# Altium integrated library TI_Logic_Specialty_Logic.IntLib: 2504 symbols (part 15 of 81)
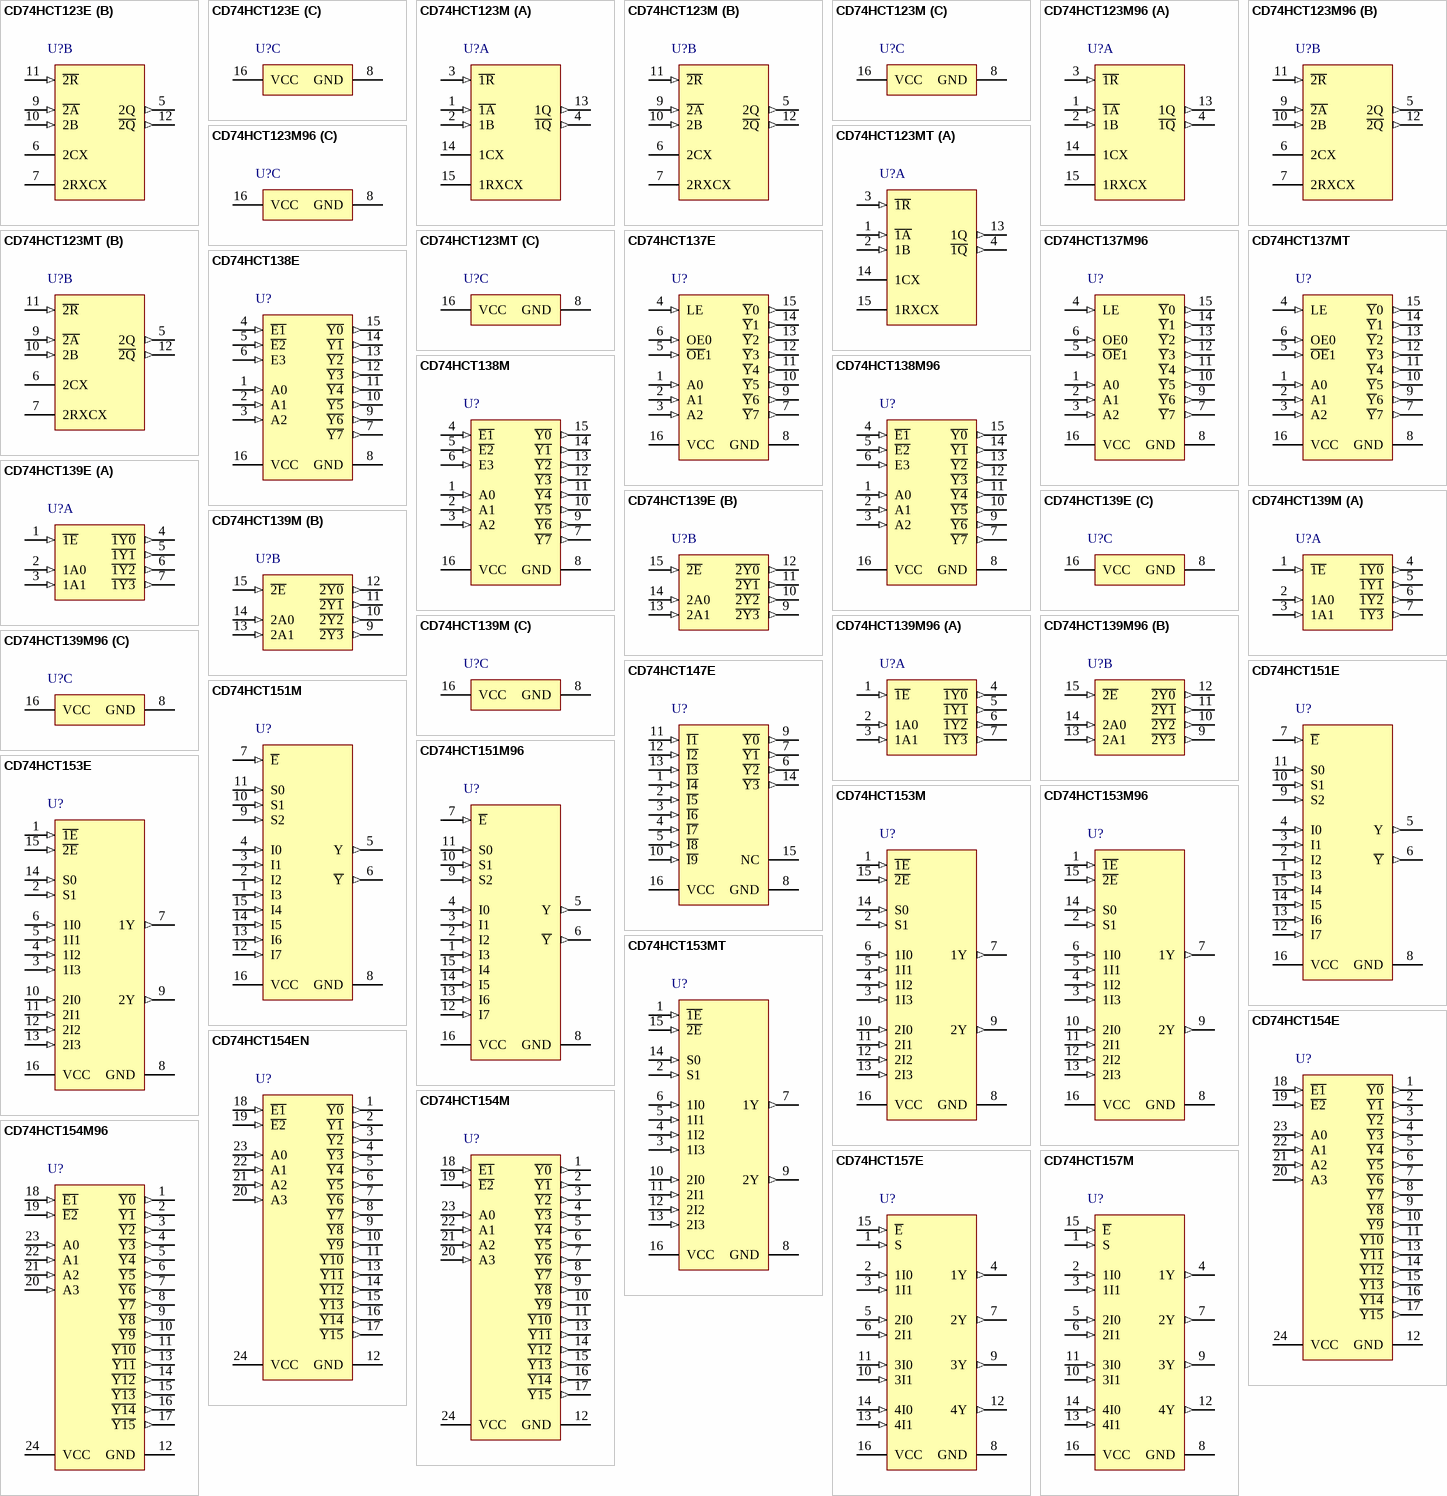
[diagram p118: symbols CD74HCT123E to CD74HCT157M]

## CD74HCT139M96
designator U?
High Speed CMOS Logic Dual 2-to-4 Line Decoders/Demultiplexers, D0016A, LARGE T&R; Generic Part Number: CD74HCT139; Manufacturer: Texas Instruments; PartNumber: CD74HCT139M96; VCC(Min)(V): 4.5; VCC(Max)(V): 5.5; Function: Decoder/Demultiplexer; ICC @ Nom Voltage(Max)(mA): 0.08; Input Type: TTL; Bits(#): 4; F @ Nom Voltage(Max)(Mhz): 25; Configuration: 2：4; Channels(#): 2; Rating: Catalog; Technology Family: HCT; Voltage(Nom)(V): 5; Schmitt Trigger: No; Output Drive (IOL/IOH)(Max)(mA): 4/-4; tpd @ Nom Voltage(Max)(ns): 45; DatasheetVersion: SCHS148D; PackageReference: D0016A; Supplier 1: Mouser; Supplier Part Number 1: 595-CD74HCT139M96; Supplier 2: Digi-Key; Supplier Part Number 2: CD74HCT139M96-ND; Output Type: CMOS; Operating Temperature Range(C): -55 to 125; Type: Standard; Code_JEDEC: MS-012 variation AC; ComponentLink1Description: Manufacturer URL; ComponentLink1URL: http://www.ti.com/; ComponentLink2Description: Datasheet; ComponentLink2URL: http://www.ti.com/lit/ds/symlink/cd74hct139.pdf; ComponentLink3Description: Package Specification; ComponentLink3URL: http://www.ti.com/lit/ml/mpds178g/mpds178g.pdf
footprint D0016A_N (SOIC, 16-Leads, Body 10x4mm, Pitch 1.27mm, IPC Medium Density)
footprint D0016A_M (SOIC, 16-Leads, Body 10x4mm, Pitch 1.27mm, IPC Low Density)
footprint D0016A_L (SOIC, 16-Leads, Body 10x4mm, Pitch 1.27mm, IPC High Density)
part A pins: 1 ~{1E} (in), 2 1A0 (in), 3 1A1 (in), 4 ~{1Y0} (out), 5 ~{1Y1} (out), 6 ~{1Y2} (out), 7 ~{1Y3} (out)
part B pins: 9 ~{2Y3} (out), 10 ~{2Y2} (out), 11 ~{2Y1} (out), 12 ~{2Y0} (out), 13 2A1 (in), 14 2A0 (in), 15 ~{2E} (in)
part C pins: 8 GND (power), 16 VCC (power)

## CD74HCT147E
designator U?
High Speed CMOS Logic 10-to-4 Line Priority Encoder, N0016A, TUBE; Generic Part Number: CD74HCT147; Manufacturer: Texas Instruments; PartNumber: CD74HCT147E; VCC(Min)(V): 4.5; VCC(Max)(V): 5.5; Function: Encoder/Multiplexer; ICC @ Nom Voltage(Max)(mA): 0.08; Input Type: TTL; Bits(#): 10; F @ Nom Voltage(Max)(Mhz): 25; Configuration: 10：4; Channels(#): 1; Rating: Catalog; Technology Family: HCT; Voltage(Nom)(V): 5; Schmitt Trigger: No; Output Drive (IOL/IOH)(Max)(mA): 4/-4; tpd @ Nom Voltage(Max)(ns): 35; DatasheetVersion: SCHS149F; PackageReference: N0016A; Supplier 1: Mouser; Supplier Part Number 1: 595-CD74HCT147E; Supplier 2: Digi-Key; Supplier Part Number 2: 296-9252-5-ND; Output Type: CMOS; Operating Temperature Range(C): -55 to 125; Type: Standard; Code_JEDEC: MS-001; ComponentLink1Description: Manufacturer URL; ComponentLink1URL: http://www.ti.com/; ComponentLink2Description: Datasheet; ComponentLink2URL: http://www.ti.com/lit/ds/symlink/cd74hct147.pdf; ComponentLink3Description: Package Specification; ComponentLink3URL: http://www.ti.com/lit/ml/mpdi002c/mpdi002c.pdf
footprint N0016A (DIP, 16-Leads, Body 19.7x6.6mm, Pitch 2.54mm)
pins: 1 ~{I4} (in), 2 ~{I5} (in), 3 ~{I6} (in), 4 ~{I7} (in), 5 ~{I8} (in), 6 ~{Y2} (out), 7 ~{Y1} (out), 8 GND (power), 9 ~{Y0} (out), 10 ~{I9} (in), 11 ~{I1} (in), 12 ~{I2} (in), 13 ~{I3} (in), 14 ~{Y3} (out), 15 NC, 16 VCC (power)

## CD74HCT151E
designator U?
High Speed CMOS Logic 8-Input Multiplexer, N0016A, TUBE; Generic Part Number: CD74HCT151; Manufacturer: Texas Instruments; PartNumber: CD74HCT151E; VCC(Min)(V): 4.5; VCC(Max)(V): 5.5; Function: Encoder/Multiplexer; ICC @ Nom Voltage(Max)(mA): 0.08; Input Type: TTL; Bits(#): 8; F @ Nom Voltage(Max)(Mhz): 25; Configuration: 8：1; Channels(#): 1; Rating: Catalog; Technology Family: HCT; Voltage(Nom)(V): 5; Schmitt Trigger: No; Output Drive (IOL/IOH)(Max)(mA): 4/-4; tpd @ Nom Voltage(Max)(ns): 48; DatasheetVersion: SCHS150C; PackageReference: N0016A; Supplier 1: Mouser; Supplier Part Number 1: 595-CD74HCT151E; Supplier 2: Digi-Key; Supplier Part Number 2: 296-2139-5-ND; Output Type: CMOS; Operating Temperature Range(C): -55 to 125; Type: Standard; Code_JEDEC: MS-001; ComponentLink1Description: Manufacturer URL; ComponentLink1URL: http://www.ti.com/; ComponentLink2Description: Datasheet; ComponentLink2URL: http://www.ti.com/lit/ds/symlink/cd74hct151.pdf; ComponentLink3Description: Package Specification; ComponentLink3URL: http://www.ti.com/lit/ml/mpdi002c/mpdi002c.pdf
footprint N0016A (DIP, 16-Leads, Body 19.7x6.6mm, Pitch 2.54mm)
pins: 1 I3 (in), 2 I2 (in), 3 I1 (in), 4 I0 (in), 5 Y (out), 6 ~{Y} (out), 7 ~{E} (in), 8 GND (power), 9 S2 (in), 10 S1 (in), 11 S0 (in), 12 I7 (in), 13 I6 (in), 14 I5 (in), 15 I4 (in), 16 VCC (power)

## CD74HCT151M
designator U?
High Speed CMOS Logic 8-Input Multiplexer, D0016A, TUBE; Generic Part Number: CD74HCT151; Manufacturer: Texas Instruments; PartNumber: CD74HCT151M; VCC(Min)(V): 4.5; VCC(Max)(V): 5.5; Function: Encoder/Multiplexer; ICC @ Nom Voltage(Max)(mA): 0.08; Input Type: TTL; Bits(#): 8; F @ Nom Voltage(Max)(Mhz): 25; Configuration: 8：1; Channels(#): 1; Rating: Catalog; Technology Family: HCT; Voltage(Nom)(V): 5; Schmitt Trigger: No; Output Drive (IOL/IOH)(Max)(mA): 4/-4; tpd @ Nom Voltage(Max)(ns): 48; DatasheetVersion: SCHS150C; PackageReference: D0016A; Supplier 1: Mouser; Supplier Part Number 1: 595-CD74HCT151M; Supplier 2: Digi-Key; Supplier Part Number 2: 296-9254-5-ND; Output Type: CMOS; Operating Temperature Range(C): -55 to 125; Type: Standard; Code_JEDEC: MS-012 variation AC; ComponentLink1Description: Manufacturer URL; ComponentLink1URL: http://www.ti.com/; ComponentLink2Description: Datasheet; ComponentLink2URL: http://www.ti.com/lit/ds/symlink/cd74hct151.pdf; ComponentLink3Description: Package Specification; ComponentLink3URL: http://www.ti.com/lit/ml/mpds178g/mpds178g.pdf
footprint D0016A_N (SOIC, 16-Leads, Body 10x4mm, Pitch 1.27mm, IPC Medium Density)
footprint D0016A_M (SOIC, 16-Leads, Body 10x4mm, Pitch 1.27mm, IPC Low Density)
footprint D0016A_L (SOIC, 16-Leads, Body 10x4mm, Pitch 1.27mm, IPC High Density)
pins: 1 I3 (in), 2 I2 (in), 3 I1 (in), 4 I0 (in), 5 Y (out), 6 ~{Y} (out), 7 ~{E} (in), 8 GND (power), 9 S2 (in), 10 S1 (in), 11 S0 (in), 12 I7 (in), 13 I6 (in), 14 I5 (in), 15 I4 (in), 16 VCC (power)

## CD74HCT151M96
designator U?
High Speed CMOS Logic 8-Input Multiplexer, D0016A, LARGE T&R; Generic Part Number: CD74HCT151; Manufacturer: Texas Instruments; PartNumber: CD74HCT151M96; VCC(Min)(V): 4.5; VCC(Max)(V): 5.5; Function: Encoder/Multiplexer; ICC @ Nom Voltage(Max)(mA): 0.08; Input Type: TTL; Bits(#): 8; F @ Nom Voltage(Max)(Mhz): 25; Configuration: 8：1; Channels(#): 1; Rating: Catalog; Technology Family: HCT; Voltage(Nom)(V): 5; Schmitt Trigger: No; Output Drive (IOL/IOH)(Max)(mA): 4/-4; tpd @ Nom Voltage(Max)(ns): 48; DatasheetVersion: SCHS150C; PackageReference: D0016A; Supplier 1: Mouser; Supplier Part Number 1: 595-CD74HCT151M96; Supplier 2: Digi-Key; Supplier Part Number 2: 296-38072-2-ND; Supplier 3: Digi-Key; Supplier Part Number 3: 296-38072-1-ND; Supplier 4: Digi-Key; Supplier Part Number 4: 296-38072-6-ND; Output Type: CMOS; Operating Temperature Range(C): -55 to 125; Type: Standard; Code_JEDEC: MS-012 variation AC; ComponentLink1Description: Manufacturer URL; ComponentLink1URL: http://www.ti.com/; ComponentLink2Description: Datasheet; ComponentLink2URL: http://www.ti.com/lit/ds/symlink/cd74hct151.pdf; ComponentLink3Description: Package Specification; ComponentLink3URL: http://www.ti.com/lit/ml/mpds178g/mpds178g.pdf
footprint D0016A_N (SOIC, 16-Leads, Body 10x4mm, Pitch 1.27mm, IPC Medium Density)
footprint D0016A_M (SOIC, 16-Leads, Body 10x4mm, Pitch 1.27mm, IPC Low Density)
footprint D0016A_L (SOIC, 16-Leads, Body 10x4mm, Pitch 1.27mm, IPC High Density)
pins: 1 I3 (in), 2 I2 (in), 3 I1 (in), 4 I0 (in), 5 Y (out), 6 ~{Y} (out), 7 ~{E} (in), 8 GND (power), 9 S2 (in), 10 S1 (in), 11 S0 (in), 12 I7 (in), 13 I6 (in), 14 I5 (in), 15 I4 (in), 16 VCC (power)

## CD74HCT153E
designator U?
High Speed CMOS Logic Dual 4-Input Multiplexers, N0016A, TUBE; Generic Part Number: CD74HCT153; Manufacturer: Texas Instruments; PartNumber: CD74HCT153E; VCC(Min)(V): 4.5; VCC(Max)(V): 5.5; Function: Encoder/Multiplexer; ICC @ Nom Voltage(Max)(mA): 0.08; Input Type: TTL; Bits(#): 4; F @ Nom Voltage(Max)(Mhz): 25; Configuration: 4：1; Channels(#): 2; Rating: Catalog; Technology Family: HCT; Voltage(Nom)(V): 5; Schmitt Trigger: No; Output Drive (IOL/IOH)(Max)(mA): 4/-4; tpd @ Nom Voltage(Max)(ns): 43; DatasheetVersion: SCHS151C; PackageReference: N0016A; Supplier 1: Mouser; Supplier Part Number 1: 595-CD74HCT153E; Supplier 2: Digi-Key; Supplier Part Number 2: 296-2094-5-ND; Output Type: CMOS; Operating Temperature Range(C): -55 to 125; Type: Standard; Code_JEDEC: MS-001; ComponentLink1Description: Manufacturer URL; ComponentLink1URL: http://www.ti.com/; ComponentLink2Description: Datasheet; ComponentLink2URL: http://www.ti.com/lit/ds/symlink/cd74hct153.pdf; ComponentLink3Description: Package Specification; ComponentLink3URL: http://www.ti.com/lit/ml/mpdi002c/mpdi002c.pdf
footprint N0016A (DIP, 16-Leads, Body 19.7x6.6mm, Pitch 2.54mm)
pins: 1 ~{1E} (in), 2 S1 (in), 3 1I3 (in), 4 1I2 (in), 5 1I1 (in), 6 1I0 (in), 7 1Y (out), 8 GND (power), 9 2Y (out), 10 2I0 (in), 11 2I1 (in), 12 2I2 (in), 13 2I3 (in), 14 S0 (in), 15 ~{2E} (in), 16 VCC (power)

## CD74HCT153M
designator U?
High Speed CMOS Logic Dual 4-Input Multiplexers, D0016A, TUBE; Generic Part Number: CD74HCT153; Manufacturer: Texas Instruments; PartNumber: CD74HCT153M; VCC(Min)(V): 4.5; VCC(Max)(V): 5.5; Function: Encoder/Multiplexer; ICC @ Nom Voltage(Max)(mA): 0.08; Input Type: TTL; Bits(#): 4; F @ Nom Voltage(Max)(Mhz): 25; Configuration: 4：1; Channels(#): 2; Rating: Catalog; Technology Family: HCT; Voltage(Nom)(V): 5; Schmitt Trigger: No; Output Drive (IOL/IOH)(Max)(mA): 4/-4; tpd @ Nom Voltage(Max)(ns): 43; DatasheetVersion: SCHS151C; PackageReference: D0016A; Supplier 1: Mouser; Supplier Part Number 1: 595-CD74HCT153M; Supplier 2: Digi-Key; Supplier Part Number 2: 296-9255-5-ND; Output Type: CMOS; Operating Temperature Range(C): -55 to 125; Type: Standard; Code_JEDEC: MS-012 variation AC; ComponentLink1Description: Manufacturer URL; ComponentLink1URL: http://www.ti.com/; ComponentLink2Description: Datasheet; ComponentLink2URL: http://www.ti.com/lit/ds/symlink/cd74hct153.pdf; ComponentLink3Description: Package Specification; ComponentLink3URL: http://www.ti.com/lit/ml/mpds178g/mpds178g.pdf
footprint D0016A_N (SOIC, 16-Leads, Body 10x4mm, Pitch 1.27mm, IPC Medium Density)
footprint D0016A_M (SOIC, 16-Leads, Body 10x4mm, Pitch 1.27mm, IPC Low Density)
footprint D0016A_L (SOIC, 16-Leads, Body 10x4mm, Pitch 1.27mm, IPC High Density)
pins: 1 ~{1E} (in), 2 S1 (in), 3 1I3 (in), 4 1I2 (in), 5 1I1 (in), 6 1I0 (in), 7 1Y (out), 8 GND (power), 9 2Y (out), 10 2I0 (in), 11 2I1 (in), 12 2I2 (in), 13 2I3 (in), 14 S0 (in), 15 ~{2E} (in), 16 VCC (power)

## CD74HCT153M96
designator U?
High Speed CMOS Logic Dual 4-Input Multiplexers, D0016A, LARGE T&R; Generic Part Number: CD74HCT153; Manufacturer: Texas Instruments; PartNumber: CD74HCT153M96; VCC(Min)(V): 4.5; VCC(Max)(V): 5.5; Function: Encoder/Multiplexer; ICC @ Nom Voltage(Max)(mA): 0.08; Input Type: TTL; Bits(#): 4; F @ Nom Voltage(Max)(Mhz): 25; Configuration: 4：1; Channels(#): 2; Rating: Catalog; Technology Family: HCT; Voltage(Nom)(V): 5; Schmitt Trigger: No; Output Drive (IOL/IOH)(Max)(mA): 4/-4; tpd @ Nom Voltage(Max)(ns): 43; DatasheetVersion: SCHS151C; PackageReference: D0016A; Supplier 1: Mouser; Supplier Part Number 1: 595-CD74HCT153M96; Supplier 2: Digi-Key; Supplier Part Number 2: CD74HCT153M96-ND; Output Type: CMOS; Operating Temperature Range(C): -55 to 125; Type: Standard; Code_JEDEC: MS-012 variation AC; ComponentLink1Description: Manufacturer URL; ComponentLink1URL: http://www.ti.com/; ComponentLink2Description: Datasheet; ComponentLink2URL: http://www.ti.com/lit/ds/symlink/cd74hct153.pdf; ComponentLink3Description: Package Specification; ComponentLink3URL: http://www.ti.com/lit/ml/mpds178g/mpds178g.pdf
footprint D0016A_N (SOIC, 16-Leads, Body 10x4mm, Pitch 1.27mm, IPC Medium Density)
footprint D0016A_M (SOIC, 16-Leads, Body 10x4mm, Pitch 1.27mm, IPC Low Density)
footprint D0016A_L (SOIC, 16-Leads, Body 10x4mm, Pitch 1.27mm, IPC High Density)
pins: 1 ~{1E} (in), 2 S1 (in), 3 1I3 (in), 4 1I2 (in), 5 1I1 (in), 6 1I0 (in), 7 1Y (out), 8 GND (power), 9 2Y (out), 10 2I0 (in), 11 2I1 (in), 12 2I2 (in), 13 2I3 (in), 14 S0 (in), 15 ~{2E} (in), 16 VCC (power)

## CD74HCT153MT
designator U?
High Speed CMOS Logic Dual 4-Input Multiplexers, D0016A, SMALL T&R; Generic Part Number: CD74HCT153; Manufacturer: Texas Instruments; PartNumber: CD74HCT153MT; VCC(Min)(V): 4.5; VCC(Max)(V): 5.5; Function: Encoder/Multiplexer; ICC @ Nom Voltage(Max)(mA): 0.08; Input Type: TTL; Bits(#): 4; F @ Nom Voltage(Max)(Mhz): 25; Configuration: 4：1; Channels(#): 2; Rating: Catalog; Technology Family: HCT; Voltage(Nom)(V): 5; Schmitt Trigger: No; Output Drive (IOL/IOH)(Max)(mA): 4/-4; tpd @ Nom Voltage(Max)(ns): 43; DatasheetVersion: SCHS151C; PackageReference: D0016A; Supplier 1: Mouser; Supplier Part Number 1: 595-CD74HCT153MT; Supplier 2: Digi-Key; Supplier Part Number 2: CD74HCT153MT-ND; Output Type: CMOS; Operating Temperature Range(C): -55 to 125; Type: Standard; Code_JEDEC: MS-012 variation AC; ComponentLink1Description: Manufacturer URL; ComponentLink1URL: http://www.ti.com/; ComponentLink2Description: Datasheet; ComponentLink2URL: http://www.ti.com/lit/ds/symlink/cd74hct153.pdf; ComponentLink3Description: Package Specification; ComponentLink3URL: http://www.ti.com/lit/ml/mpds178g/mpds178g.pdf
footprint D0016A_N (SOIC, 16-Leads, Body 10x4mm, Pitch 1.27mm, IPC Medium Density)
footprint D0016A_M (SOIC, 16-Leads, Body 10x4mm, Pitch 1.27mm, IPC Low Density)
footprint D0016A_L (SOIC, 16-Leads, Body 10x4mm, Pitch 1.27mm, IPC High Density)
pins: 1 ~{1E} (in), 2 S1 (in), 3 1I3 (in), 4 1I2 (in), 5 1I1 (in), 6 1I0 (in), 7 1Y (out), 8 GND (power), 9 2Y (out), 10 2I0 (in), 11 2I1 (in), 12 2I2 (in), 13 2I3 (in), 14 S0 (in), 15 ~{2E} (in), 16 VCC (power)

## CD74HCT154E
designator U?
High Speed CMOS Logic 4-to-16 Line Decoder/Demultiplexer, N0024A, TUBE; Generic Part Number: CD74HCT154; Manufacturer: Texas Instruments; PartNumber: CD74HCT154E; VCC(Min)(V): 4.5; VCC(Max)(V): 5.5; ICC @ Nom Voltage(Max)(mA): 0.08; Input Type: TTL; Bits(#): 16; F @ Nom Voltage(Max)(Mhz): 25; Configuration: 4：16; Channels(#): 1; Rating: Catalog; Technology Family: HCT; Voltage(Nom)(V): 5; Schmitt Trigger: No; Output Drive (IOL/IOH)(Max)(mA): 4/-4; tpd @ Nom Voltage(Max)(ns): 44; DatasheetVersion: SCHS152D; PackageReference: N0024A; Supplier 1: Mouser; Supplier Part Number 1: 595-CD74HCT154E; Supplier 2: Digi-Key; Supplier Part Number 2: 296-33132-5-ND; Output Type: CMOS; Function: Decoder/Demultiplexer; Operating Temperature Range(C): -55 to 125; Type: Standard; Code_JEDEC: MS-011; ComponentLink1Description: Manufacturer URL; ComponentLink1URL: http://www.ti.com/; ComponentLink2Description: Datasheet; ComponentLink2URL: http://www.ti.com/lit/ds/symlink/cd74hct154.pdf; ComponentLink3Description: Package Specification; ComponentLink3URL: http://www.ti.com/lit/ml/mpdi008/mpdi008.pdf
footprint N0024A (DIP, 24-Leads, Body 32.25x14.2mm, Pitch 2.54mm)
pins: 1 ~{Y0} (out), 2 ~{Y1} (out), 3 ~{Y2} (out), 4 ~{Y3} (out), 5 ~{Y4} (out), 6 ~{Y5} (out), 7 ~{Y6} (out), 8 ~{Y7} (out), 9 ~{Y8} (out), 10 ~{Y9} (out), 11 ~{Y10} (out), 12 GND (power), 13 ~{Y11} (out), 14 ~{Y12} (out), 15 ~{Y13} (out), 16 ~{Y14} (out), 17 ~{Y15} (out), 18 ~{E1} (in), 19 ~{E2} (in), 20 A3 (in), 21 A2 (in), 22 A1 (in), 23 A0 (in), 24 VCC (power)

## CD74HCT154EN
designator U?
High Speed CMOS Logic 4-to-16 Line Decoder/Demultiplexer, NT0024A, TUBE; Generic Part Number: CD74HCT154; Manufacturer: Texas Instruments; PartNumber: CD74HCT154EN; VCC(Min)(V): 4.5; VCC(Max)(V): 5.5; ICC @ Nom Voltage(Max)(mA): 0.08; Input Type: TTL; Bits(#): 16; F @ Nom Voltage(Max)(Mhz): 25; Configuration: 4：16; Channels(#): 1; Rating: Catalog; Technology Family: HCT; Voltage(Nom)(V): 5; Schmitt Trigger: No; Output Drive (IOL/IOH)(Max)(mA): 4/-4; tpd @ Nom Voltage(Max)(ns): 44; DatasheetVersion: SCHS152D; PackageReference: NT0024A; Supplier 1: Mouser; Supplier Part Number 1: 595-CD74HCT154EN; Supplier 2: Digi-Key; Supplier Part Number 2: 296-33133-5-ND; Output Type: CMOS; Function: Decoder/Demultiplexer; Operating Temperature Range(C): -55 to 125; Type: Standard; ComponentLink1Description: Manufacturer URL; ComponentLink1URL: http://www.ti.com/; ComponentLink2Description: Datasheet; ComponentLink2URL: http://www.ti.com/lit/ds/symlink/cd74hct154.pdf; ComponentLink3Description: Package Specification; ComponentLink3URL: http://www.ti.com/lit/ml/mpdi004a/mpdi004a.pdf
footprint NT0024A (DIP, 24-Leads, Body 32.05x7.1mm, Pitch 2.54mm)
pins: 1 ~{Y0} (out), 2 ~{Y1} (out), 3 ~{Y2} (out), 4 ~{Y3} (out), 5 ~{Y4} (out), 6 ~{Y5} (out), 7 ~{Y6} (out), 8 ~{Y7} (out), 9 ~{Y8} (out), 10 ~{Y9} (out), 11 ~{Y10} (out), 12 GND (power), 13 ~{Y11} (out), 14 ~{Y12} (out), 15 ~{Y13} (out), 16 ~{Y14} (out), 17 ~{Y15} (out), 18 ~{E1} (in), 19 ~{E2} (in), 20 A3 (in), 21 A2 (in), 22 A1 (in), 23 A0 (in), 24 VCC (power)

## CD74HCT154M
designator U?
High Speed CMOS Logic 4-to-16 Line Decoder/Demultiplexer, DW0024A, TUBE; Generic Part Number: CD74HCT154; Manufacturer: Texas Instruments; PartNumber: CD74HCT154M; VCC(Min)(V): 4.5; VCC(Max)(V): 5.5; ICC @ Nom Voltage(Max)(mA): 0.08; Input Type: TTL; Bits(#): 16; F @ Nom Voltage(Max)(Mhz): 25; Configuration: 4：16; Channels(#): 1; Rating: Catalog; Technology Family: HCT; Voltage(Nom)(V): 5; Schmitt Trigger: No; Output Drive (IOL/IOH)(Max)(mA): 4/-4; tpd @ Nom Voltage(Max)(ns): 44; DatasheetVersion: SCHS152D; PackageReference: DW0024A; Supplier 1: Mouser; Supplier Part Number 1: 595-CD74HCT154M; Supplier 2: Digi-Key; Supplier Part Number 2: 296-26018-5-ND; Output Type: CMOS; Function: Decoder/Demultiplexer; Operating Temperature Range(C): -55 to 125; Type: Standard; Code_JEDEC: MS-013; ComponentLink1Description: Manufacturer URL; ComponentLink1URL: http://www.ti.com/; ComponentLink2Description: Datasheet; ComponentLink2URL: http://www.ti.com/lit/ds/symlink/cd74hct154.pdf; ComponentLink3Description: Package Specification; ComponentLink3URL: http://www.ti.com/lit/ml/mpds174a/mpds174a.pdf
footprint DW0024A_N (SOIC, 24-Leads, Body 15.6x7.6mm, Pitch 1.27mm, IPC Medium Density)
footprint DW0024A_M (SOIC, 24-Leads, Body 15.6x7.6mm, Pitch 1.27mm, IPC Low Density)
footprint DW0024A_L (SOIC, 24-Leads, Body 15.6x7.6mm, Pitch 1.27mm, IPC High Density)
pins: 1 ~{Y0} (out), 2 ~{Y1} (out), 3 ~{Y2} (out), 4 ~{Y3} (out), 5 ~{Y4} (out), 6 ~{Y5} (out), 7 ~{Y6} (out), 8 ~{Y7} (out), 9 ~{Y8} (out), 10 ~{Y9} (out), 11 ~{Y10} (out), 12 GND (power), 13 ~{Y11} (out), 14 ~{Y12} (out), 15 ~{Y13} (out), 16 ~{Y14} (out), 17 ~{Y15} (out), 18 ~{E1} (in), 19 ~{E2} (in), 20 A3 (in), 21 A2 (in), 22 A1 (in), 23 A0 (in), 24 VCC (power)

## CD74HCT154M96
designator U?
High Speed CMOS Logic 4-to-16 Line Decoder/Demultiplexer, DW0024A, LARGE T&R; Generic Part Number: CD74HCT154; Manufacturer: Texas Instruments; PartNumber: CD74HCT154M96; VCC(Min)(V): 4.5; VCC(Max)(V): 5.5; ICC @ Nom Voltage(Max)(mA): 0.08; Input Type: TTL; Bits(#): 16; F @ Nom Voltage(Max)(Mhz): 25; Configuration: 4：16; Channels(#): 1; Rating: Catalog; Technology Family: HCT; Voltage(Nom)(V): 5; Schmitt Trigger: No; Output Drive (IOL/IOH)(Max)(mA): 4/-4; tpd @ Nom Voltage(Max)(ns): 44; DatasheetVersion: SCHS152D; PackageReference: DW0024A; Supplier 1: Mouser; Supplier Part Number 1: 595-CD74HCT154M96; Supplier 2: Digi-Key; Supplier Part Number 2: 296-31604-2-ND; Supplier 3: Digi-Key; Supplier Part Number 3: 296-31604-1-ND; Supplier 4: Digi-Key; Supplier Part Number 4: 296-31604-6-ND; Output Type: CMOS; Function: Decoder/Demultiplexer; Operating Temperature Range(C): -55 to 125; Type: Standard; Code_JEDEC: MS-013; ComponentLink1Description: Manufacturer URL; ComponentLink1URL: http://www.ti.com/; ComponentLink2Description: Datasheet; ComponentLink2URL: http://www.ti.com/lit/ds/symlink/cd74hct154.pdf; ComponentLink3Description: Package Specification; ComponentLink3URL: http://www.ti.com/lit/ml/mpds174a/mpds174a.pdf
footprint DW0024A_N (SOIC, 24-Leads, Body 15.6x7.6mm, Pitch 1.27mm, IPC Medium Density)
footprint DW0024A_M (SOIC, 24-Leads, Body 15.6x7.6mm, Pitch 1.27mm, IPC Low Density)
footprint DW0024A_L (SOIC, 24-Leads, Body 15.6x7.6mm, Pitch 1.27mm, IPC High Density)
pins: 1 ~{Y0} (out), 2 ~{Y1} (out), 3 ~{Y2} (out), 4 ~{Y3} (out), 5 ~{Y4} (out), 6 ~{Y5} (out), 7 ~{Y6} (out), 8 ~{Y7} (out), 9 ~{Y8} (out), 10 ~{Y9} (out), 11 ~{Y10} (out), 12 GND (power), 13 ~{Y11} (out), 14 ~{Y12} (out), 15 ~{Y13} (out), 16 ~{Y14} (out), 17 ~{Y15} (out), 18 ~{E1} (in), 19 ~{E2} (in), 20 A3 (in), 21 A2 (in), 22 A1 (in), 23 A0 (in), 24 VCC (power)

## CD74HCT157E
designator U?
High Speed CMOS Logic Quad 2-Input Multiplexers, N0016A, TUBE; Generic Part Number: CD74HCT157; Manufacturer: Texas Instruments; PartNumber: CD74HCT157E; VCC(Min)(V): 4.5; VCC(Max)(V): 5.5; Function: Encoder/Multiplexer; ICC @ Nom Voltage(Max)(mA): 0.08; Input Type: TTL; Bits(#): 2; F @ Nom Voltage(Max)(Mhz): 25; Configuration: 2：1; Channels(#): 4; Rating: Catalog; Technology Family: HCT; Voltage(Nom)(V): 5; Schmitt Trigger: No; Output Drive (IOL/IOH)(Max)(mA): 4/-4; tpd @ Nom Voltage(Max)(ns): 12; DatasheetVersion: SCHS153C; PackageReference: N0016A; Supplier 1: Mouser; Supplier Part Number 1: 595-CD74HCT157E; Supplier 2: Digi-Key; Supplier Part Number 2: 296-2095-5-ND; Output Type: CMOS; Operating Temperature Range(C): -55 to 125; Type: Standard; Code_JEDEC: MS-001; ComponentLink1Description: Manufacturer URL; ComponentLink1URL: http://www.ti.com/; ComponentLink2Description: Datasheet; ComponentLink2URL: http://www.ti.com/lit/ds/symlink/cd74hct157.pdf; ComponentLink3Description: Package Specification; ComponentLink3URL: http://www.ti.com/lit/ml/mpdi002c/mpdi002c.pdf
footprint N0016A (DIP, 16-Leads, Body 19.7x6.6mm, Pitch 2.54mm)
pins: 1 S (in), 2 1I0 (in), 3 1I1 (in), 4 1Y (out), 5 2I0 (in), 6 2I1 (in), 7 2Y (out), 8 GND (power), 9 3Y (out), 10 3I1 (in), 11 3I0 (in), 12 4Y (out), 13 4I1 (in), 14 4I0 (in), 15 ~{E} (in), 16 VCC (power)

## CD74HCT157M
designator U?
High Speed CMOS Logic Quad 2-Input Multiplexers, D0016A, TUBE; Generic Part Number: CD74HCT157; Manufacturer: Texas Instruments; PartNumber: CD74HCT157M; VCC(Min)(V): 4.5; VCC(Max)(V): 5.5; Function: Encoder/Multiplexer; ICC @ Nom Voltage(Max)(mA): 0.08; Input Type: TTL; Bits(#): 2; F @ Nom Voltage(Max)(Mhz): 25; Configuration: 2：1; Channels(#): 4; Rating: Catalog; Technology Family: HCT; Voltage(Nom)(V): 5; Schmitt Trigger: No; Output Drive (IOL/IOH)(Max)(mA): 4/-4; tpd @ Nom Voltage(Max)(ns): 12; DatasheetVersion: SCHS153C; PackageReference: D0016A; Supplier 1: Mouser; Supplier Part Number 1: 595-CD74HCT157M; Supplier 2: Digi-Key; Supplier Part Number 2: 296-26019-5-ND; Output Type: CMOS; Operating Temperature Range(C): -55 to 125; Type: Standard; Code_JEDEC: MS-012 variation AC; ComponentLink1Description: Manufacturer URL; ComponentLink1URL: http://www.ti.com/; ComponentLink2Description: Datasheet; ComponentLink2URL: http://www.ti.com/lit/ds/symlink/cd74hct157.pdf; ComponentLink3Description: Package Specification; ComponentLink3URL: http://www.ti.com/lit/ml/mpds178g/mpds178g.pdf
footprint D0016A_N (SOIC, 16-Leads, Body 10x4mm, Pitch 1.27mm, IPC Medium Density)
footprint D0016A_M (SOIC, 16-Leads, Body 10x4mm, Pitch 1.27mm, IPC Low Density)
footprint D0016A_L (SOIC, 16-Leads, Body 10x4mm, Pitch 1.27mm, IPC High Density)
pins: 1 S (in), 2 1I0 (in), 3 1I1 (in), 4 1Y (out), 5 2I0 (in), 6 2I1 (in), 7 2Y (out), 8 GND (power), 9 3Y (out), 10 3I1 (in), 11 3I0 (in), 12 4Y (out), 13 4I1 (in), 14 4I0 (in), 15 ~{E} (in), 16 VCC (power)

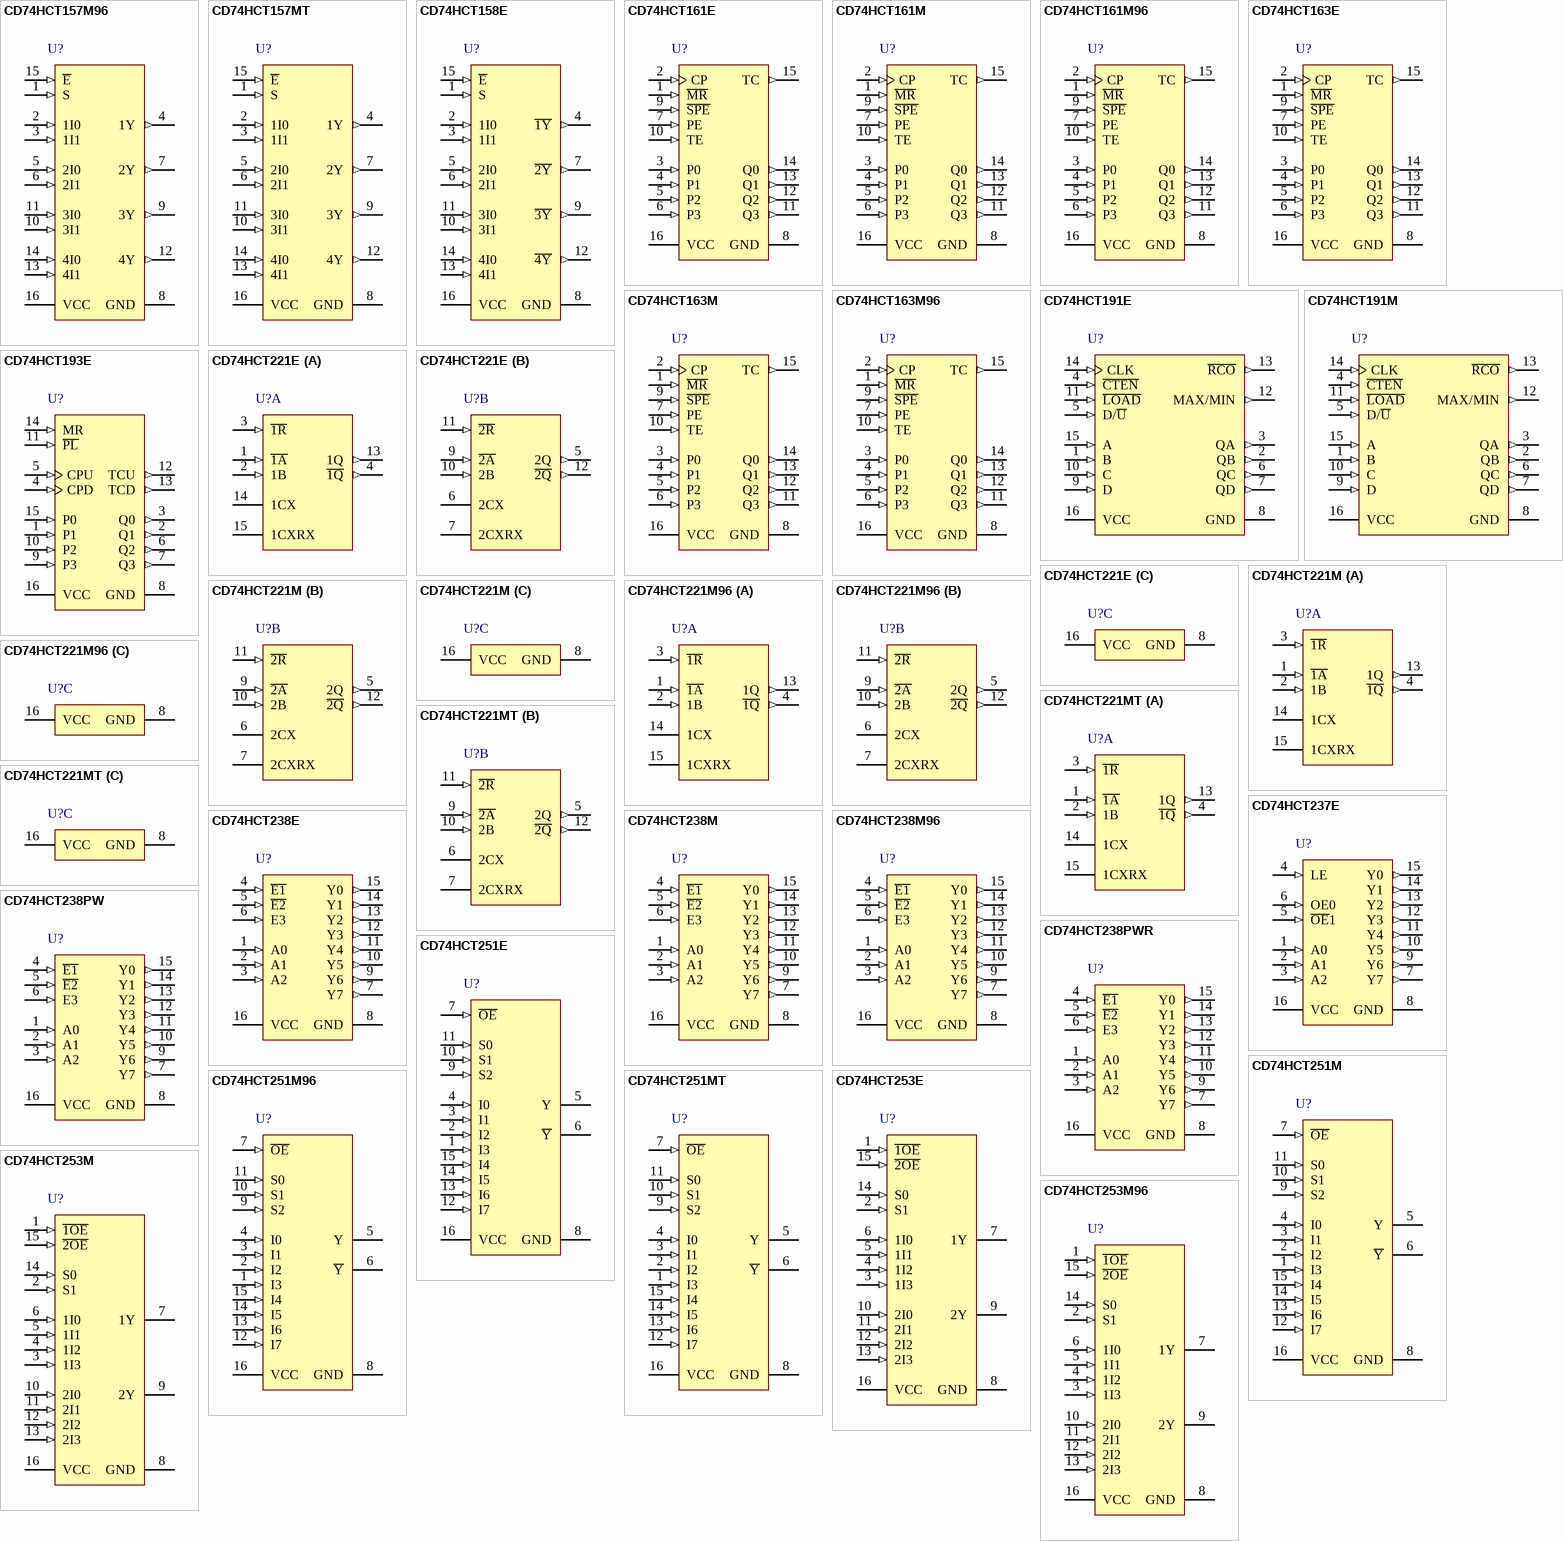
[diagram p19: symbols CD74HCT157M96 to CD74HCT253M96]

## CD74HCT157M96
designator U?
High Speed CMOS Logic Quad 2-Input Multiplexers, D0016A, LARGE T&R; Generic Part Number: CD74HCT157; Manufacturer: Texas Instruments; PartNumber: CD74HCT157M96; VCC(Min)(V): 4.5; VCC(Max)(V): 5.5; Function: Encoder/Multiplexer; ICC @ Nom Voltage(Max)(mA): 0.08; Input Type: TTL; Bits(#): 2; F @ Nom Voltage(Max)(Mhz): 25; Configuration: 2：1; Channels(#): 4; Rating: Catalog; Technology Family: HCT; Voltage(Nom)(V): 5; Schmitt Trigger: No; Output Drive (IOL/IOH)(Max)(mA): 4/-4; tpd @ Nom Voltage(Max)(ns): 12; DatasheetVersion: SCHS153C; PackageReference: D0016A; Supplier 1: Mouser; Supplier Part Number 1: 595-CD74HCT157M96; Supplier 2: Digi-Key; Supplier Part Number 2: 296-23209-2-ND; Supplier 3: Digi-Key; Supplier Part Number 3: 296-23209-1-ND; Supplier 4: Digi-Key; Supplier Part Number 4: 296-23209-6-ND; Output Type: CMOS; Operating Temperature Range(C): -55 to 125; Type: Standard; Code_JEDEC: MS-012 variation AC; ComponentLink1Description: Manufacturer URL; ComponentLink1URL: http://www.ti.com/; ComponentLink2Description: Datasheet; ComponentLink2URL: http://www.ti.com/lit/ds/symlink/cd74hct157.pdf; ComponentLink3Description: Package Specification; ComponentLink3URL: http://www.ti.com/lit/ml/mpds178g/mpds178g.pdf
footprint D0016A_N (SOIC, 16-Leads, Body 10x4mm, Pitch 1.27mm, IPC Medium Density)
footprint D0016A_M (SOIC, 16-Leads, Body 10x4mm, Pitch 1.27mm, IPC Low Density)
footprint D0016A_L (SOIC, 16-Leads, Body 10x4mm, Pitch 1.27mm, IPC High Density)
pins: 1 S (in), 2 1I0 (in), 3 1I1 (in), 4 1Y (out), 5 2I0 (in), 6 2I1 (in), 7 2Y (out), 8 GND (power), 9 3Y (out), 10 3I1 (in), 11 3I0 (in), 12 4Y (out), 13 4I1 (in), 14 4I0 (in), 15 ~{E} (in), 16 VCC (power)

## CD74HCT157MT
designator U?
High Speed CMOS Logic Quad 2-Input Multiplexers, D0016A, SMALL T&R; Generic Part Number: CD74HCT157; Manufacturer: Texas Instruments; PartNumber: CD74HCT157MT; VCC(Min)(V): 4.5; VCC(Max)(V): 5.5; Function: Encoder/Multiplexer; ICC @ Nom Voltage(Max)(mA): 0.08; Input Type: TTL; Bits(#): 2; F @ Nom Voltage(Max)(Mhz): 25; Configuration: 2：1; Channels(#): 4; Rating: Catalog; Technology Family: HCT; Voltage(Nom)(V): 5; Schmitt Trigger: No; Output Drive (IOL/IOH)(Max)(mA): 4/-4; tpd @ Nom Voltage(Max)(ns): 12; DatasheetVersion: SCHS153C; PackageReference: D0016A; Supplier 1: Mouser; Supplier Part Number 1: 595-CD74HCT157MT; Supplier 2: Digi-Key; Supplier Part Number 2: CD74HCT157MT-ND; Output Type: CMOS; Operating Temperature Range(C): -55 to 125; Type: Standard; Code_JEDEC: MS-012 variation AC; ComponentLink1Description: Manufacturer URL; ComponentLink1URL: http://www.ti.com/; ComponentLink2Description: Datasheet; ComponentLink2URL: http://www.ti.com/lit/ds/symlink/cd74hct157.pdf; ComponentLink3Description: Package Specification; ComponentLink3URL: http://www.ti.com/lit/ml/mpds178g/mpds178g.pdf
footprint D0016A_N (SOIC, 16-Leads, Body 10x4mm, Pitch 1.27mm, IPC Medium Density)
footprint D0016A_M (SOIC, 16-Leads, Body 10x4mm, Pitch 1.27mm, IPC Low Density)
footprint D0016A_L (SOIC, 16-Leads, Body 10x4mm, Pitch 1.27mm, IPC High Density)
pins: 1 S (in), 2 1I0 (in), 3 1I1 (in), 4 1Y (out), 5 2I0 (in), 6 2I1 (in), 7 2Y (out), 8 GND (power), 9 3Y (out), 10 3I1 (in), 11 3I0 (in), 12 4Y (out), 13 4I1 (in), 14 4I0 (in), 15 ~{E} (in), 16 VCC (power)

## CD74HCT158E
designator U?
High Speed CMOS Logic Quad 2-Input Multiplexers, N0016A, TUBE; Generic Part Number: CD74HCT158; Manufacturer: Texas Instruments; PartNumber: CD74HCT158E; VCC(Min)(V): 4.5; VCC(Max)(V): 5.5; Function: Encoder/Multiplexer; ICC @ Nom Voltage(Max)(mA): 0.08; Input Type: TTL; Bits(#): 2; F @ Nom Voltage(Max)(Mhz): 25; Configuration: 2：1; Channels(#): 4; Rating: Catalog; Technology Family: HCT; Voltage(Nom)(V): 5; Schmitt Trigger: No; Output Drive (IOL/IOH)(Max)(mA): 4/-4; tpd @ Nom Voltage(Max)(ns): 13; DatasheetVersion: SCHS153C; PackageReference: N0016A; Supplier 1: Mouser; Supplier Part Number 1: 595-CD74HCT158E; Supplier 2: Digi-Key; Supplier Part Number 2: 296-2140-5-ND; Output Type: CMOS; Operating Temperature Range(C): -55 to 125; Type: Standard; Code_JEDEC: MS-001; ComponentLink1Description: Manufacturer URL; ComponentLink1URL: http://www.ti.com/; ComponentLink2Description: Datasheet; ComponentLink2URL: http://www.ti.com/lit/ds/symlink/cd74hct158.pdf; ComponentLink3Description: Package Specification; ComponentLink3URL: http://www.ti.com/lit/ml/mpdi002c/mpdi002c.pdf
footprint N0016A (DIP, 16-Leads, Body 19.7x6.6mm, Pitch 2.54mm)
pins: 1 S (in), 2 1I0 (in), 3 1I1 (in), 4 ~{1Y} (out), 5 2I0 (in), 6 2I1 (in), 7 ~{2Y} (out), 8 GND (power), 9 ~{3Y} (out), 10 3I1 (in), 11 3I0 (in), 12 ~{4Y} (out), 13 4I1 (in), 14 4I0 (in), 15 ~{E} (in), 16 VCC (power)

## CD74HCT161E
designator U?
High Speed CMOS Logic 4-Bit Binary Counter with Asynchronous Reset, N0016A, TUBE; Generic Part Number: CD74HCT161; Manufacturer: Texas Instruments; PartNumber: CD74HCT161E; VCC(Min)(V): 4.5; VCC(Max)(V): 5.5; Inputs: 4; ICC @ Nom Voltage(Max)(mA): 0.08; Input Type: TTL; F @ Nom Voltage(Max)(Mhz): 25; Rating: Catalog; Technology Family: HCT; Voltage(Nom)(V): 5; Schmitt Trigger: No; Output Drive (IOL/IOH)(Max)(mA): 4/-4; tpd @ Nom Voltage(Max)(ns): 49; DatasheetVersion: SCHS154D; PackageReference: N0016A; Supplier 1: Mouser; Supplier Part Number 1: 595-CD74HCT161E; Supplier 2: Digi-Key; Supplier Part Number 2: 296-2096-5-ND; Output Type: CMOS; Function: Counter; Bits(#): 4; Operating Temperature Range(C): -55 to 125; Type: Binary; Code_JEDEC: MS-001; ComponentLink1Description: Manufacturer URL; ComponentLink1URL: http://www.ti.com/; ComponentLink2Description: Datasheet; ComponentLink2URL: http://www.ti.com/lit/ds/symlink/cd74hct161.pdf; ComponentLink3Description: Package Specification; ComponentLink3URL: http://www.ti.com/lit/ml/mpdi002c/mpdi002c.pdf
footprint N0016A (DIP, 16-Leads, Body 19.7x6.6mm, Pitch 2.54mm)
pins: 1 ~{MR} (in), 2 CP (in), 3 P0 (in), 4 P1 (in), 5 P2 (in), 6 P3 (in), 7 PE (in), 8 GND (power), 9 ~{SPE} (in), 10 TE (in), 11 Q3 (out), 12 Q2 (out), 13 Q1 (out), 14 Q0 (out), 15 TC (out), 16 VCC (power)

## CD74HCT161M
designator U?
High Speed CMOS Logic 4-Bit Binary Counter with Asynchronous Reset, D0016A, TUBE; Generic Part Number: CD74HCT161; Manufacturer: Texas Instruments; PartNumber: CD74HCT161M; VCC(Min)(V): 4.5; VCC(Max)(V): 5.5; Inputs: 4; ICC @ Nom Voltage(Max)(mA): 0.08; Input Type: TTL; F @ Nom Voltage(Max)(Mhz): 25; Rating: Catalog; Technology Family: HCT; Voltage(Nom)(V): 5; Schmitt Trigger: No; Output Drive (IOL/IOH)(Max)(mA): 4/-4; tpd @ Nom Voltage(Max)(ns): 49; DatasheetVersion: SCHS154D; PackageReference: D0016A; Supplier 1: Mouser; Supplier Part Number 1: 595-CD74HCT161M; Supplier 2: Digi-Key; Supplier Part Number 2: 296-9256-5-ND; Output Type: CMOS; Function: Counter; Bits(#): 4; Operating Temperature Range(C): -55 to 125; Type: Binary; Code_JEDEC: MS-012 variation AC; ComponentLink1Description: Manufacturer URL; ComponentLink1URL: http://www.ti.com/; ComponentLink2Description: Datasheet; ComponentLink2URL: http://www.ti.com/lit/ds/symlink/cd74hct161.pdf; ComponentLink3Description: Package Specification; ComponentLink3URL: http://www.ti.com/lit/ml/mpds178g/mpds178g.pdf
footprint D0016A_N (SOIC, 16-Leads, Body 10x4mm, Pitch 1.27mm, IPC Medium Density)
footprint D0016A_M (SOIC, 16-Leads, Body 10x4mm, Pitch 1.27mm, IPC Low Density)
footprint D0016A_L (SOIC, 16-Leads, Body 10x4mm, Pitch 1.27mm, IPC High Density)
pins: 1 ~{MR} (in), 2 CP (in), 3 P0 (in), 4 P1 (in), 5 P2 (in), 6 P3 (in), 7 PE (in), 8 GND (power), 9 ~{SPE} (in), 10 TE (in), 11 Q3 (out), 12 Q2 (out), 13 Q1 (out), 14 Q0 (out), 15 TC (out), 16 VCC (power)

## CD74HCT161M96
designator U?
High Speed CMOS Logic 4-Bit Binary Counter with Asynchronous Reset, D0016A, LARGE T&R; Generic Part Number: CD74HCT161; Manufacturer: Texas Instruments; PartNumber: CD74HCT161M96; VCC(Min)(V): 4.5; VCC(Max)(V): 5.5; Inputs: 4; ICC @ Nom Voltage(Max)(mA): 0.08; Input Type: TTL; F @ Nom Voltage(Max)(Mhz): 25; Rating: Catalog; Technology Family: HCT; Voltage(Nom)(V): 5; Schmitt Trigger: No; Output Drive (IOL/IOH)(Max)(mA): 4/-4; tpd @ Nom Voltage(Max)(ns): 49; DatasheetVersion: SCHS154D; PackageReference: D0016A; Supplier 1: Mouser; Supplier Part Number 1: 595-CD74HCT161M96; Supplier 2: Digi-Key; Supplier Part Number 2: 296-38073-2-ND; Supplier 3: Digi-Key; Supplier Part Number 3: 296-38073-1-ND; Supplier 4: Digi-Key; Supplier Part Number 4: 296-38073-6-ND; Output Type: CMOS; Function: Counter; Bits(#): 4; Operating Temperature Range(C): -55 to 125; Type: Binary; Code_JEDEC: MS-012 variation AC; ComponentLink1Description: Manufacturer URL; ComponentLink1URL: http://www.ti.com/; ComponentLink2Description: Datasheet; ComponentLink2URL: http://www.ti.com/lit/ds/symlink/cd74hct161.pdf; ComponentLink3Description: Package Specification; ComponentLink3URL: http://www.ti.com/lit/ml/mpds178g/mpds178g.pdf
footprint D0016A_N (SOIC, 16-Leads, Body 10x4mm, Pitch 1.27mm, IPC Medium Density)
footprint D0016A_M (SOIC, 16-Leads, Body 10x4mm, Pitch 1.27mm, IPC Low Density)
footprint D0016A_L (SOIC, 16-Leads, Body 10x4mm, Pitch 1.27mm, IPC High Density)
pins: 1 ~{MR} (in), 2 CP (in), 3 P0 (in), 4 P1 (in), 5 P2 (in), 6 P3 (in), 7 PE (in), 8 GND (power), 9 ~{SPE} (in), 10 TE (in), 11 Q3 (out), 12 Q2 (out), 13 Q1 (out), 14 Q0 (out), 15 TC (out), 16 VCC (power)

## CD74HCT163E
designator U?
High Speed CMOS Logic 4-Bit Binary Counter with Synchronous Reset, N0016A, TUBE; Generic Part Number: CD74HCT163; Manufacturer: Texas Instruments; PartNumber: CD74HCT163E; VCC(Min)(V): 4.5; VCC(Max)(V): 5.5; Inputs: 4; ICC @ Nom Voltage(Max)(mA): 0.08; Input Type: TTL; F @ Nom Voltage(Max)(Mhz): 25; Rating: Catalog; Technology Family: HCT; Voltage(Nom)(V): 5; Schmitt Trigger: No; Output Drive (IOL/IOH)(Max)(mA): 4/-4; tpd @ Nom Voltage(Max)(ns): 49; DatasheetVersion: SCHS154D; PackageReference: N0016A; Supplier 1: Mouser; Supplier Part Number 1: 595-CD74HCT163E; Supplier 2: Digi-Key; Supplier Part Number 2: 296-12833-5-ND; Output Type: CMOS; Function: Counter; Bits(#): 4; Operating Temperature Range(C): -55 to 125; Type: Binary; Code_JEDEC: MS-001; ComponentLink1Description: Manufacturer URL; ComponentLink1URL: http://www.ti.com/; ComponentLink2Description: Datasheet; ComponentLink2URL: http://www.ti.com/lit/ds/symlink/cd74hct163.pdf; ComponentLink3Description: Package Specification; ComponentLink3URL: http://www.ti.com/lit/ml/mpdi002c/mpdi002c.pdf
footprint N0016A (DIP, 16-Leads, Body 19.7x6.6mm, Pitch 2.54mm)
pins: 1 ~{MR} (in), 2 CP (in), 3 P0 (in), 4 P1 (in), 5 P2 (in), 6 P3 (in), 7 PE (in), 8 GND (power), 9 ~{SPE} (in), 10 TE (in), 11 Q3 (out), 12 Q2 (out), 13 Q1 (out), 14 Q0 (out), 15 TC (out), 16 VCC (power)

## CD74HCT163M
designator U?
High Speed CMOS Logic 4-Bit Binary Counter with Synchronous Reset, D0016A, TUBE; Generic Part Number: CD74HCT163; Manufacturer: Texas Instruments; PartNumber: CD74HCT163M; VCC(Min)(V): 4.5; VCC(Max)(V): 5.5; Inputs: 4; ICC @ Nom Voltage(Max)(mA): 0.08; Input Type: TTL; F @ Nom Voltage(Max)(Mhz): 25; Rating: Catalog; Technology Family: HCT; Voltage(Nom)(V): 5; Schmitt Trigger: No; Output Drive (IOL/IOH)(Max)(mA): 4/-4; tpd @ Nom Voltage(Max)(ns): 49; DatasheetVersion: SCHS154D; PackageReference: D0016A; Supplier 1: Mouser; Supplier Part Number 1: 595-CD74HCT163M; Supplier 2: Digi-Key; Supplier Part Number 2: 296-33134-5-ND; Output Type: CMOS; Function: Counter; Bits(#): 4; Operating Temperature Range(C): -55 to 125; Type: Binary; Code_JEDEC: MS-012 variation AC; ComponentLink1Description: Manufacturer URL; ComponentLink1URL: http://www.ti.com/; ComponentLink2Description: Datasheet; ComponentLink2URL: http://www.ti.com/lit/ds/symlink/cd74hct163.pdf; ComponentLink3Description: Package Specification; ComponentLink3URL: http://www.ti.com/lit/ml/mpds178g/mpds178g.pdf
footprint D0016A_N (SOIC, 16-Leads, Body 10x4mm, Pitch 1.27mm, IPC Medium Density)
footprint D0016A_M (SOIC, 16-Leads, Body 10x4mm, Pitch 1.27mm, IPC Low Density)
footprint D0016A_L (SOIC, 16-Leads, Body 10x4mm, Pitch 1.27mm, IPC High Density)
pins: 1 ~{MR} (in), 2 CP (in), 3 P0 (in), 4 P1 (in), 5 P2 (in), 6 P3 (in), 7 PE (in), 8 GND (power), 9 ~{SPE} (in), 10 TE (in), 11 Q3 (out), 12 Q2 (out), 13 Q1 (out), 14 Q0 (out), 15 TC (out), 16 VCC (power)

## CD74HCT163M96
designator U?
High Speed CMOS Logic 4-Bit Binary Counter with Synchronous Reset, D0016A, LARGE T&R; Generic Part Number: CD74HCT163; Manufacturer: Texas Instruments; PartNumber: CD74HCT163M96; VCC(Min)(V): 4.5; VCC(Max)(V): 5.5; Inputs: 4; ICC @ Nom Voltage(Max)(mA): 0.08; Input Type: TTL; F @ Nom Voltage(Max)(Mhz): 25; Rating: Catalog; Technology Family: HCT; Voltage(Nom)(V): 5; Schmitt Trigger: No; Output Drive (IOL/IOH)(Max)(mA): 4/-4; tpd @ Nom Voltage(Max)(ns): 49; DatasheetVersion: SCHS154D; PackageReference: D0016A; Supplier 1: Mouser; Supplier Part Number 1: 595-CD74HCT163M96; Supplier 2: Digi-Key; Supplier Part Number 2: CD74HCT163M96-ND; Output Type: CMOS; Function: Counter; Bits(#): 4; Operating Temperature Range(C): -55 to 125; Type: Binary; Code_JEDEC: MS-012 variation AC; ComponentLink1Description: Manufacturer URL; ComponentLink1URL: http://www.ti.com/; ComponentLink2Description: Datasheet; ComponentLink2URL: http://www.ti.com/lit/ds/symlink/cd74hct163.pdf; ComponentLink3Description: Package Specification; ComponentLink3URL: http://www.ti.com/lit/ml/mpds178g/mpds178g.pdf
footprint D0016A_N (SOIC, 16-Leads, Body 10x4mm, Pitch 1.27mm, IPC Medium Density)
footprint D0016A_M (SOIC, 16-Leads, Body 10x4mm, Pitch 1.27mm, IPC Low Density)
footprint D0016A_L (SOIC, 16-Leads, Body 10x4mm, Pitch 1.27mm, IPC High Density)
pins: 1 ~{MR} (in), 2 CP (in), 3 P0 (in), 4 P1 (in), 5 P2 (in), 6 P3 (in), 7 PE (in), 8 GND (power), 9 ~{SPE} (in), 10 TE (in), 11 Q3 (out), 12 Q2 (out), 13 Q1 (out), 14 Q0 (out), 15 TC (out), 16 VCC (power)

## CD74HCT191E
designator U?
High Speed CMOS Logic Presettable Synchronous 4-Bit Binary Up/Down Counters, N0016A, TUBE; Generic Part Number: CD74HCT191; Manufacturer: Texas Instruments; PartNumber: CD74HCT191E; VCC(Min)(V): 4.5; VCC(Max)(V): 5.5; Inputs: 4; ICC @ Nom Voltage(Max)(mA): 0.08; Input Type: TTL; F @ Nom Voltage(Max)(Mhz): 25; Rating: Catalog; Technology Family: HCT; Voltage(Nom)(V): 5; Schmitt Trigger: No; Output Drive (IOL/IOH)(Max)(mA): 4/-4; tpd @ Nom Voltage(Max)(ns): 48; DatasheetVersion: SCHS275E; PackageReference: N0016A; Supplier 1: Mouser; Supplier Part Number 1: 595-CD74HCT191E; Supplier 2: Digi-Key; Supplier Part Number 2: 296-2141-5-ND; Output Type: CMOS; Function: Counter; Bits(#): 4; Operating Temperature Range(C): -55 to 125; Type: Binary; Code_JEDEC: MS-001; ComponentLink1Description: Manufacturer URL; ComponentLink1URL: http://www.ti.com/; ComponentLink2Description: Datasheet; ComponentLink2URL: http://www.ti.com/lit/ds/symlink/cd74hct191.pdf; ComponentLink3Description: Package Specification; ComponentLink3URL: http://www.ti.com/lit/ml/mpdi002c/mpdi002c.pdf
footprint N0016A (DIP, 16-Leads, Body 19.7x6.6mm, Pitch 2.54mm)
pins: 1 B (in), 2 QB (out), 3 QA (out), 4 ~{CTEN} (in), 5 D/~{U} (in), 6 QC (out), 7 QD (out), 8 GND (power), 9 D (in), 10 C (in), 11 ~{LOAD} (in), 12 MAX/MIN (out), 13 ~{RCO} (out), 14 CLK (in), 15 A (in), 16 VCC (power)

## CD74HCT191M
designator U?
High Speed CMOS Logic Presettable Synchronous 4-Bit Binary Up/Down Counters, D0016A, TUBE; Generic Part Number: CD74HCT191; Manufacturer: Texas Instruments; PartNumber: CD74HCT191M; VCC(Min)(V): 4.5; VCC(Max)(V): 5.5; Inputs: 4; ICC @ Nom Voltage(Max)(mA): 0.08; Input Type: TTL; F @ Nom Voltage(Max)(Mhz): 25; Rating: Catalog; Technology Family: HCT; Voltage(Nom)(V): 5; Schmitt Trigger: No; Output Drive (IOL/IOH)(Max)(mA): 4/-4; tpd @ Nom Voltage(Max)(ns): 48; DatasheetVersion: SCHS275E; PackageReference: D0016A; Supplier 1: Mouser; Supplier Part Number 1: 595-CD74HCT191M; Supplier 2: Digi-Key; Supplier Part Number 2: 296-9261-5-ND; Output Type: CMOS; Function: Counter; Bits(#): 4; Operating Temperature Range(C): -55 to 125; Type: Binary; Code_JEDEC: MS-012 variation AC; ComponentLink1Description: Manufacturer URL; ComponentLink1URL: http://www.ti.com/; ComponentLink2Description: Datasheet; ComponentLink2URL: http://www.ti.com/lit/ds/symlink/cd74hct191.pdf; ComponentLink3Description: Package Specification; ComponentLink3URL: http://www.ti.com/lit/ml/mpds178g/mpds178g.pdf
footprint D0016A_N (SOIC, 16-Leads, Body 10x4mm, Pitch 1.27mm, IPC Medium Density)
footprint D0016A_M (SOIC, 16-Leads, Body 10x4mm, Pitch 1.27mm, IPC Low Density)
footprint D0016A_L (SOIC, 16-Leads, Body 10x4mm, Pitch 1.27mm, IPC High Density)
pins: 1 B (in), 2 QB (out), 3 QA (out), 4 ~{CTEN} (in), 5 D/~{U} (in), 6 QC (out), 7 QD (out), 8 GND (power), 9 D (in), 10 C (in), 11 ~{LOAD} (in), 12 MAX/MIN (out), 13 ~{RCO} (out), 14 CLK (in), 15 A (in), 16 VCC (power)

## CD74HCT193E
designator U?
High Speed CMOS Logic Presettable Synchronous 4-Bit Binary Up/Down Counters with Asynchronous Reset, N0016A, TUBE; Generic Part Number: CD74HCT193; Manufacturer: Texas Instruments; PartNumber: CD74HCT193E; VCC(Min)(V): 4.5; VCC(Max)(V): 5.5; Inputs: 1; ICC @ Nom Voltage(Max)(mA): 0.08; Input Type: TTL; Bits(#): 4; F @ Nom Voltage(Max)(Mhz): 25; Rating: Catalog; Technology Family: HCT; Voltage(Nom)(V): 5; Schmitt Trigger: No; Output Drive (IOL/IOH)(Max)(mA): 4/-4; tpd @ Nom Voltage(Max)(ns): 50; DatasheetVersion: SCHS163F; PackageReference: N0016A; Supplier 1: Mouser; Supplier Part Number 1: 595-CD74HCT193E; Supplier 2: Digi-Key; Supplier Part Number 2: 296-2142-5-ND; Output Type: CMOS; Function: Counter; Operating Temperature Range(C): -55 to 125; Type: Binary; Code_JEDEC: MS-001; ComponentLink1Description: Manufacturer URL; ComponentLink1URL: http://www.ti.com/; ComponentLink2Description: Datasheet; ComponentLink2URL: http://www.ti.com/lit/ds/symlink/cd74hct193.pdf; ComponentLink3Description: Package Specification; ComponentLink3URL: http://www.ti.com/lit/ml/mpdi002c/mpdi002c.pdf
footprint N0016A (DIP, 16-Leads, Body 19.7x6.6mm, Pitch 2.54mm)
pins: 1 P1 (in), 2 Q1 (out), 3 Q0 (out), 4 CPD (in), 5 CPU (in), 6 Q2 (out), 7 Q3 (out), 8 GND (power), 9 P3 (in), 10 P2 (in), 11 ~{PL} (in), 12 TCU (out), 13 TCD (out), 14 MR (in), 15 P0 (in), 16 VCC (power)

## CD74HCT221E
designator U?
High Speed CMOS Logic Dual Monostable Multivibrators with Reset, N0016A, TUBE; Generic Part Number: CD74HCT221; Manufacturer: Texas Instruments; PartNumber: CD74HCT221E; VCC(Min)(V): 4.5; VCC(Max)(V): 5.5; ICC @ Nom Voltage(Max)(mA): 0.08; Input Type: TTL; Bits(#): 2; F @ Nom Voltage(Max)(Mhz): 25; Rating: Catalog; Technology Family: HCT; Voltage(Nom)(V): 5; Schmitt Trigger: No; Output Drive (IOL/IOH)(Max)(mA): 4/-4; tpd @ Nom Voltage(Max)(ns): 43; DatasheetVersion: SCHS166F; PackageReference: N0016A; Supplier 1: Mouser; Supplier Part Number 1: 595-CD74HCT221E; Supplier 2: Digi-Key; Supplier Part Number 2: 296-26022-5-ND; Output Type: CMOS; Operating Temperature Range(C): -55 to 125; Code_JEDEC: MS-001; ComponentLink1Description: Manufacturer URL; ComponentLink1URL: http://www.ti.com/; ComponentLink2Description: Datasheet; ComponentLink2URL: http://www.ti.com/lit/ds/symlink/cd74hct221.pdf; ComponentLink3Description: Package Specification; ComponentLink3URL: http://www.ti.com/lit/ml/mpdi002c/mpdi002c.pdf
footprint N0016A (DIP, 16-Leads, Body 19.7x6.6mm, Pitch 2.54mm)
part A pins: 1 ~{1A} (in), 2 1B (in), 3 ~{1R} (in), 4 ~{1Q} (out), 13 1Q (out), 14 1CX, 15 1CXRX
part B pins: 5 2Q (out), 6 2CX, 7 2CXRX, 9 ~{2A} (in), 10 2B (in), 11 ~{2R} (in), 12 ~{2Q} (out)
part C pins: 8 GND (power), 16 VCC (power)

## CD74HCT221M
designator U?
High Speed CMOS Logic Dual Monostable Multivibrators with Reset, D0016A, TUBE; Generic Part Number: CD74HCT221; Manufacturer: Texas Instruments; PartNumber: CD74HCT221M; VCC(Min)(V): 4.5; VCC(Max)(V): 5.5; ICC @ Nom Voltage(Max)(mA): 0.08; Input Type: TTL; Bits(#): 2; F @ Nom Voltage(Max)(Mhz): 25; Rating: Catalog; Technology Family: HCT; Voltage(Nom)(V): 5; Schmitt Trigger: No; Output Drive (IOL/IOH)(Max)(mA): 4/-4; tpd @ Nom Voltage(Max)(ns): 43; DatasheetVersion: SCHS166F; PackageReference: D0016A; Supplier 1: Mouser; Supplier Part Number 1: 595-CD74HCT221M; Supplier 2: Digi-Key; Supplier Part Number 2: 296-26023-5-ND; Output Type: CMOS; Operating Temperature Range(C): -55 to 125; Code_JEDEC: MS-012 variation AC; ComponentLink1Description: Manufacturer URL; ComponentLink1URL: http://www.ti.com/; ComponentLink2Description: Datasheet; ComponentLink2URL: http://www.ti.com/lit/ds/symlink/cd74hct221.pdf; ComponentLink3Description: Package Specification; ComponentLink3URL: http://www.ti.com/lit/ml/mpds178g/mpds178g.pdf
footprint D0016A_N (SOIC, 16-Leads, Body 10x4mm, Pitch 1.27mm, IPC Medium Density)
footprint D0016A_M (SOIC, 16-Leads, Body 10x4mm, Pitch 1.27mm, IPC Low Density)
footprint D0016A_L (SOIC, 16-Leads, Body 10x4mm, Pitch 1.27mm, IPC High Density)
part A pins: 1 ~{1A} (in), 2 1B (in), 3 ~{1R} (in), 4 ~{1Q} (out), 13 1Q (out), 14 1CX, 15 1CXRX
part B pins: 5 2Q (out), 6 2CX, 7 2CXRX, 9 ~{2A} (in), 10 2B (in), 11 ~{2R} (in), 12 ~{2Q} (out)
part C pins: 8 GND (power), 16 VCC (power)

## CD74HCT221M96
designator U?
High Speed CMOS Logic Dual Monostable Multivibrators with Reset, D0016A, LARGE T&R; Generic Part Number: CD74HCT221; Manufacturer: Texas Instruments; PartNumber: CD74HCT221M96; VCC(Min)(V): 4.5; VCC(Max)(V): 5.5; ICC @ Nom Voltage(Max)(mA): 0.08; Input Type: TTL; Bits(#): 2; F @ Nom Voltage(Max)(Mhz): 25; Rating: Catalog; Technology Family: HCT; Voltage(Nom)(V): 5; Schmitt Trigger: No; Output Drive (IOL/IOH)(Max)(mA): 4/-4; tpd @ Nom Voltage(Max)(ns): 43; DatasheetVersion: SCHS166F; PackageReference: D0016A; Supplier 1: Mouser; Supplier Part Number 1: 595-CD74HCT221M96; Supplier 2: Digi-Key; Supplier Part Number 2: 296-9263-2-ND; Supplier 3: Digi-Key; Supplier Part Number 3: 296-9263-1-ND; Supplier 4: Digi-Key; Supplier Part Number 4: 296-9263-6-ND; Output Type: CMOS; Operating Temperature Range(C): -55 to 125; Code_JEDEC: MS-012 variation AC; ComponentLink1Description: Manufacturer URL; ComponentLink1URL: http://www.ti.com/; ComponentLink2Description: Datasheet; ComponentLink2URL: http://www.ti.com/lit/ds/symlink/cd74hct221.pdf; ComponentLink3Description: Package Specification; ComponentLink3URL: http://www.ti.com/lit/ml/mpds178g/mpds178g.pdf
footprint D0016A_N (SOIC, 16-Leads, Body 10x4mm, Pitch 1.27mm, IPC Medium Density)
footprint D0016A_M (SOIC, 16-Leads, Body 10x4mm, Pitch 1.27mm, IPC Low Density)
footprint D0016A_L (SOIC, 16-Leads, Body 10x4mm, Pitch 1.27mm, IPC High Density)
part A pins: 1 ~{1A} (in), 2 1B (in), 3 ~{1R} (in), 4 ~{1Q} (out), 13 1Q (out), 14 1CX, 15 1CXRX
part B pins: 5 2Q (out), 6 2CX, 7 2CXRX, 9 ~{2A} (in), 10 2B (in), 11 ~{2R} (in), 12 ~{2Q} (out)
part C pins: 8 GND (power), 16 VCC (power)

## CD74HCT221MT
designator U?
High Speed CMOS Logic Dual Monostable Multivibrators with Reset, D0016A, SMALL T&R; Generic Part Number: CD74HCT221; Manufacturer: Texas Instruments; PartNumber: CD74HCT221MT; VCC(Min)(V): 4.5; VCC(Max)(V): 5.5; ICC @ Nom Voltage(Max)(mA): 0.08; Input Type: TTL; Bits(#): 2; F @ Nom Voltage(Max)(Mhz): 25; Rating: Catalog; Technology Family: HCT; Voltage(Nom)(V): 5; Schmitt Trigger: No; Output Drive (IOL/IOH)(Max)(mA): 4/-4; tpd @ Nom Voltage(Max)(ns): 43; DatasheetVersion: SCHS166F; PackageReference: D0016A; Supplier 1: Mouser; Supplier Part Number 1: 595-CD74HCT221MT; Supplier 2: Digi-Key; Supplier Part Number 2: CD74HCT221MT-ND; Output Type: CMOS; Operating Temperature Range(C): -55 to 125; Code_JEDEC: MS-012 variation AC; ComponentLink1Description: Manufacturer URL; ComponentLink1URL: http://www.ti.com/; ComponentLink2Description: Datasheet; ComponentLink2URL: http://www.ti.com/lit/ds/symlink/cd74hct221.pdf; ComponentLink3Description: Package Specification; ComponentLink3URL: http://www.ti.com/lit/ml/mpds178g/mpds178g.pdf
footprint D0016A_N (SOIC, 16-Leads, Body 10x4mm, Pitch 1.27mm, IPC Medium Density)
footprint D0016A_M (SOIC, 16-Leads, Body 10x4mm, Pitch 1.27mm, IPC Low Density)
footprint D0016A_L (SOIC, 16-Leads, Body 10x4mm, Pitch 1.27mm, IPC High Density)
part A pins: 1 ~{1A} (in), 2 1B (in), 3 ~{1R} (in), 4 ~{1Q} (out), 13 1Q (out), 14 1CX, 15 1CXRX
part B pins: 5 2Q (out), 6 2CX, 7 2CXRX, 9 ~{2A} (in), 10 2B (in), 11 ~{2R} (in), 12 ~{2Q} (out)
part C pins: 8 GND (power), 16 VCC (power)

## CD74HCT237E
designator U?
High Speed CMOS Logic 3-to-8 Line Decoder Demutiplexer with Address Latches, N0016A, TUBE; Generic Part Number: CD74HCT237; Manufacturer: Texas Instruments; PartNumber: CD74HCT237E; VCC(Min)(V): 4.5; VCC(Max)(V): 5.5; Function: Decoder/Demultiplexer; ICC @ Nom Voltage(Max)(mA): 0.08; Input Type: TTL; Bits(#): 8; F @ Nom Voltage(Max)(Mhz): 25; Configuration: 3：8; Channels(#): 1; Rating: Catalog; Technology Family: HCT; Voltage(Nom)(V): 5; Schmitt Trigger: No; Output Drive (IOL/IOH)(Max)(mA): 4/-4; tpd @ Nom Voltage(Max)(ns): 16; DatasheetVersion: SCHS146F; PackageReference: N0016A; Supplier 1: Mouser; Supplier Part Number 1: 595-CD74HCT237E; Supplier 2: Digi-Key; Supplier Part Number 2: 296-33138-5-ND; Output Type: CMOS; Operating Temperature Range(C): -55 to 125; Type: Standard; Code_JEDEC: MS-001; ComponentLink1Description: Manufacturer URL; ComponentLink1URL: http://www.ti.com/; ComponentLink2Description: Datasheet; ComponentLink2URL: http://www.ti.com/lit/ds/symlink/cd74hct237.pdf; ComponentLink3Description: Package Specification; ComponentLink3URL: http://www.ti.com/lit/ml/mpdi002c/mpdi002c.pdf
footprint N0016A (DIP, 16-Leads, Body 19.7x6.6mm, Pitch 2.54mm)
pins: 1 A0 (in), 2 A1 (in), 3 A2 (in), 4 LE (in), 5 ~{OE}1 (in), 6 OE0 (in), 7 Y7 (out), 8 GND (power), 9 Y6 (out), 10 Y5 (out), 11 Y4 (out), 12 Y3 (out), 13 Y2 (out), 14 Y1 (out), 15 Y0 (out), 16 VCC (power)